# Altium schematic symbol library Boost_Shematic_Lib.SchLib: 3 symbols
Pins are listed as number, name and electrical type; pins without a type are passive.

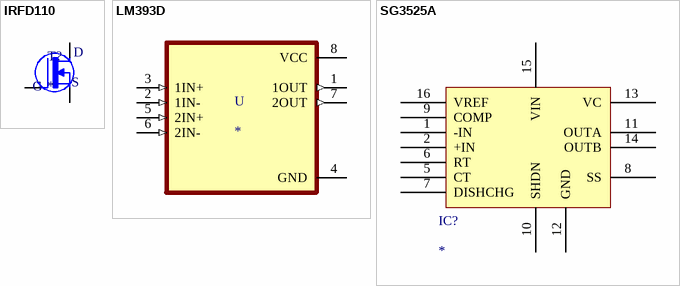
[diagram p0: symbols IRFD110 to SG3525A]

## IRFD110
designator T?
N-Channel 100V 1A (Ta) 1.3W (Ta) Through Hole 4-DIP, Hexdip, HVMDIP; MF: Vishay Siliconix; MP: IRFD110; Value: *; Availability: Warning; Package: DIP-4 Vishay Siliconix; Purchase-URL: https://pricing.snapeda.com/search/part/IRFD110/?ref=eda; Price: None; SnapEDA_Link: https://www.snapeda.com/parts/IRFD110/Vishay%20Siliconix/view-part/888020/?ref=snap; Check_prices: https://www.snapeda.com/parts/IRFD110/Vishay%20Siliconix/view-part/888020/?ref=eda
footprint DIP4
pins: D, D1 (io), G, S

## LM393D
designator U
Dual differential comparator, commercial grade 8-SOIC 0 to 70; MP: LM393D; MF: Texas Instruments; SnapEDA_Link: https://www.snapeda.com/parts/LM393D/Texas%20Instruments/view-part/4806035/?ref=snap; Package: SOIC-8 Texas Instruments; Availability: Good; Value: *; Mouser-Purchase-URL: https://snapeda.com/shop?store=Mouser&id=4806035; Arrow_Electronics-Purchase-URL: https://snapeda.com/shop?store=Arrow+Electronics&id=4806035; Price: None; Texas_Instruments-Purchase-URL: https://snapeda.com/shop?store=Texas+Instruments&id=4806035; BuyPart: https://www.snapeda.com/parts/LM393D/Texas%20Instruments/view-part/4806035/?ref=eda
footprint SOIC127P599X175-8N
pins: 1 1OUT (out), 2 1IN- (in), 3 1IN+ (in), 4 GND (power), 5 2IN+ (in), 6 2IN- (in), 7 2OUT (out), 8 VCC (power)

## SG3525A
designator IC?
PWM GENERATOR IC
footprint SG3525A (IC)
pins: 1 -IN, 2 +IN, 5 CT, 6 RT, 7 DISHCHG, 8 SS, 9 COMP, 10 SHDN, 11 OUTA, 12 GND, 13 VC, 14 OUTB, 15 VIN, 16 VREF